# Altium footprint library WifiNode.PcbLib: 25 footprints (part 1 of 2)
Each footprint in its own frame and in the unit in brackets; x right, y up, seen from the top. Pads: shape width x height; smd on the part's side, far side on the other; paste and mask are expansions set on the pad; w line width, h text height; cw(c..) or ccw(c..) is an arc to the next point about the centre after c.
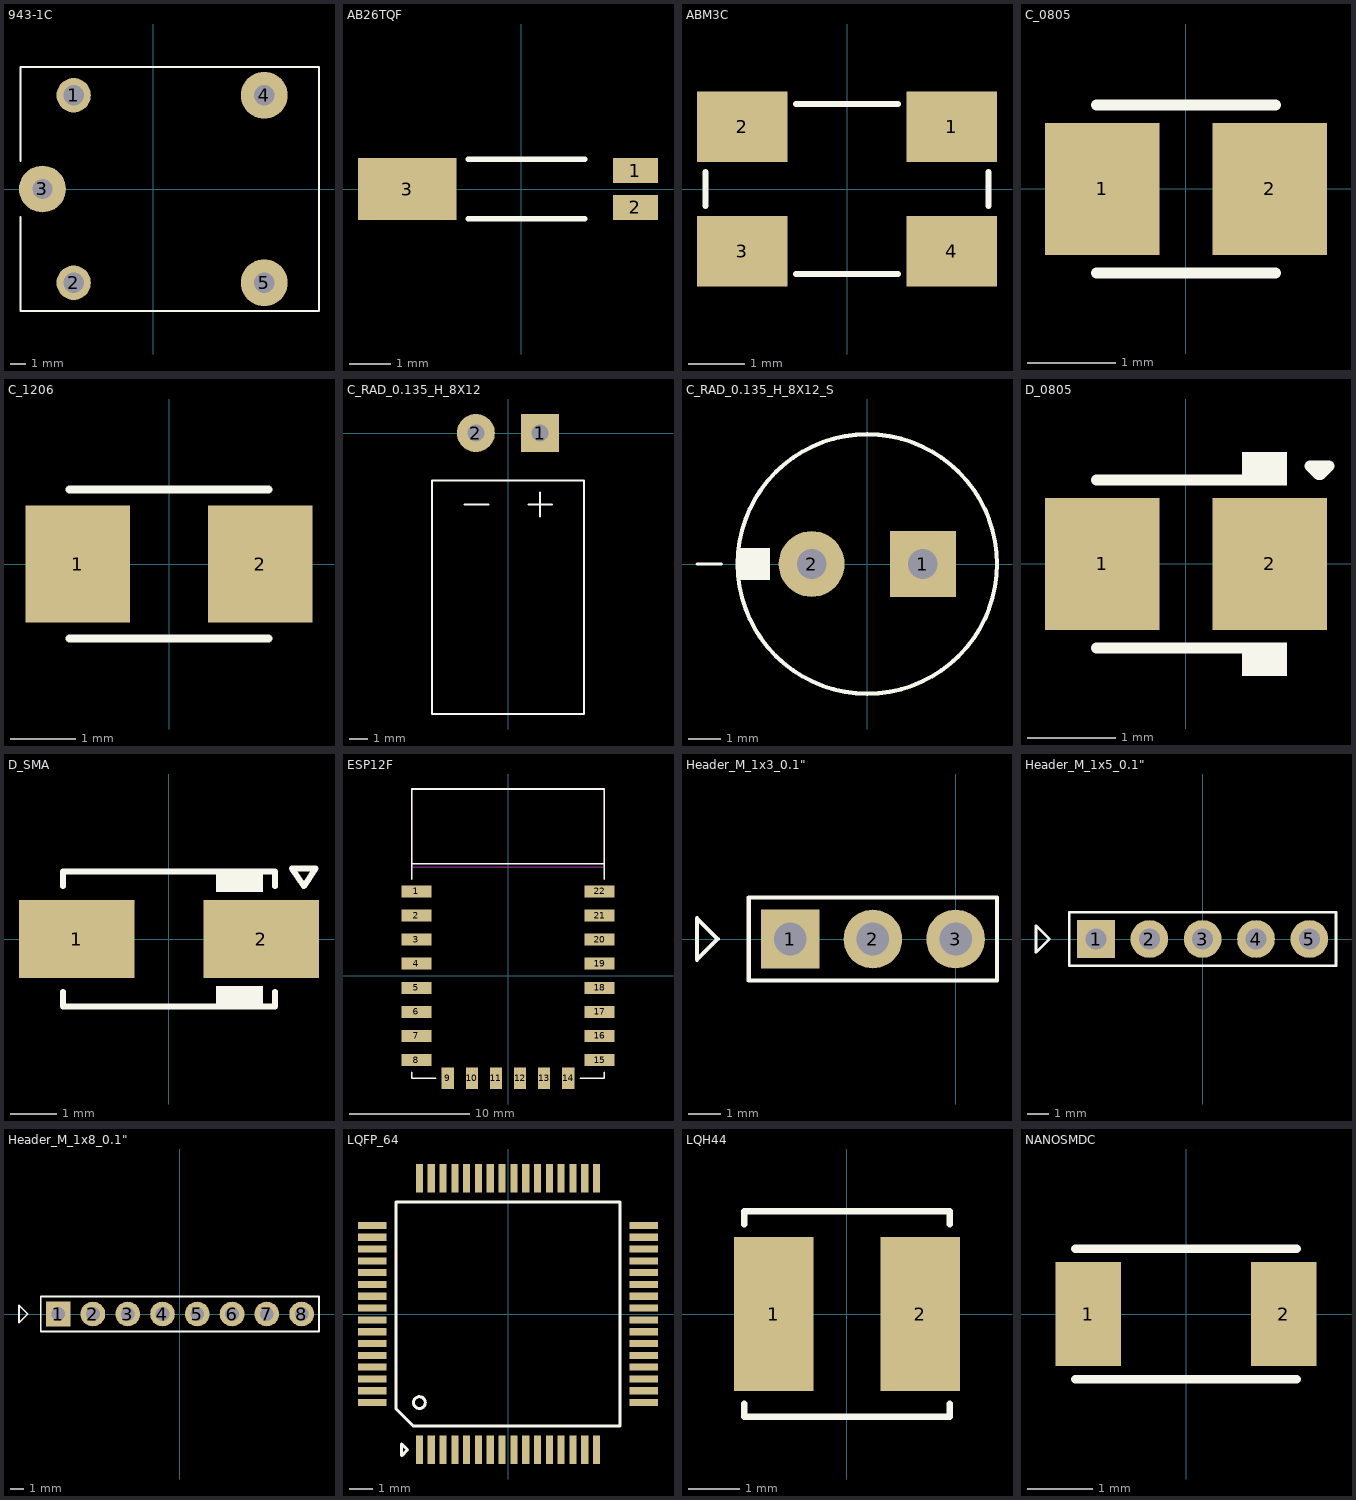
[diagram p0: the footprints below, top view; thin cyan lines are the x and y axes]

## 943-1C [mm]
pads (5):
  round 2.2 hole 1.3: 1(-5.1,6) 2(-5.1,-6)
  round 3 hole 1.3: 3(-7.1,0) 4(7.1,6) 5(7.1,-6)
Top Overlay:
  lines w0.127: -8.5,-1.8 -8.5,-7.8 10.6,-7.8 10.6,7.8 -8.5,7.8 -8.5,1.8
3D body: height 15.3, standoff 0, extent -8.5,-7.75 10.5,7.75

## AB26TQF [mm]
pads (3):
  rect 1.1x0.6 smd: 1(2.775,0.45) 2(2.775,-0.45)
  rect 2.4x1.5 smd: 3(-2.775,0)
Top Overlay:
  lines w0.127: -1.295,-0.725 1.549,-0.725 ; -1.295,0.725 1.549,0.725
3D body "AB26TRQ.STEP": height 1.53, standoff -0.12, extent -3.877,-0.675 2.827,0.775

## ABM3C [mm]
pads (4):
  rect 1.6x1.25 smd: 1(1.85,1.1) 2(-1.85,1.1) 3(-1.85,-1.1) 4(1.85,-1.1)
Top Overlay:
  lines w0.102: -2.5,-0.3 -2.5,0.3 ; -0.9,-1.5 0.9,-1.5 ; -0.9,1.5 0.9,1.5 ; 2.5,-0.3 2.5,0.3
3D body "ABM3C.STEP": height 1.3, standoff 0, extent -2.5,-1.6 2.5,1.6

## C_0805 [mm] "Chip Capacitor, 2-Leads, Body 2.00x1.25mm"
height 1.1
pads (2):
  rect 1.3x1.5 smd: 1(-0.95,0) 2(0.95,0)
Top Overlay:
  lines w0.127: -1.016,-0.953 1.016,-0.953 ; -1.016,0.953 1.016,0.953
3D body "SW3dPS-0805 SMD Capacitor.STEP": height 0.78, standoff 0, extent -1,-0.625 1,0.625

## C_1206 [mm]
pads (2):
  rect 1.6x1.8 smd: 1(-1.4,0) 2(1.4,0)
Top Overlay:
  lines w0.127: -1.524,-1.143 1.524,-1.143 ; -1.524,1.143 1.524,1.143
3D body "SW3dPS-1206 SMD Capacitor.STEP": height 1, standoff 0, extent -1.6,-0.8 1.6,0.8

## C_RAD_0.135_H_8X12 [mil]
pads (2):
  rect 80x80 hole 36: 1(67.5,0)
  round 80 hole 36: 2(-67.5,0)
Top Overlay:
  lines w4: -91.12,-150 -41.12,-150 ; 42.5,-150 92.5,-150 ; 67.5,-175 67.5,-125 ; -160,-590.12 160,-590.12 160,-100 -160,-100 -160,-590.12
3D body "User Library-Cap electrolitic radial 8x12.STEP": height 334.58, standoff 19.69, extent -157.42,-590.55 157.43,-59.06

## C_RAD_0.135_H_8X12_S [mil]
pads (2):
  rect 80x80 hole 36: 1(67.5,0)
  round 80 hole 36: 2(-67.5,0)
Top Overlay:
  circle w5: c0,0 r157.48
  rectangle: -157.48,-19.68 -118.11,19.69
  lines w4: -206.69,0 -177.17,0
3D body "User Library-Cap-EL(8x12-3_5)T.STEP": height 484.33, standoff -129.92, extent -157.56,-157.41 157.48,157.4

## D_0805 [mm]
pads (2):
  rect 1.3x1.5 smd: 1(-0.95,0) 2(0.95,0)
Top Overlay:
  rectangle: 0.635,-1.27 1.143,-0.889
  rectangle: 0.635,0.889 1.143,1.27
  lines w0.127: -1.016,-0.953 1.016,-0.953 ; -1.016,0.953 1.016,0.953 ; 1.405,1.111 1.619,1.111 1.524,1.016 1.5,1.016 1.405,1.111
3D body "User Library-User Library-led_0805 YEL.STEP": height 1.12, standoff -0.02, extent -1.01,-0.663 1.01,0.625

## D_SMA [mm]
height 2.4
pads (2):
  rect 2.5x1.7 smd: 1(-2,0) 2(2,0)
Top Overlay:
  rectangle: 1.016,-1.524 2.032,-1.016
  rectangle: 1.016,1.016 2.032,1.524
  lines w0.127: -2.3,-1.143 -2.3,-1.46 2.3,-1.46 2.3,-1.143 ; -2.3,1.143 -2.3,1.46 2.3,1.46 2.3,1.143 ; 2.667,1.524 2.921,1.143 3.175,1.524 2.667,1.524
3D body "User Library-DO-214AC(SMA).STEP": height 2.39, standoff 0.11, extent -2.743,-1.397 2.743,1.397

## ESP12F [mm]
pads (22):
  rect 2.5x1 smd: 1(-7.6,7) 2(-7.6,5) 3(-7.6,3) 4(-7.6,1) 5(-7.6,-1) 6(-7.6,-3) 7(-7.6,-5) 8(-7.6,-7) 15(7.6,-7) 16(7.6,-5) 17(7.6,-3) 18(7.6,-1) 19(7.6,1) 20(7.6,3) 21(7.6,5) 22(7.6,7)
  rect 1x1.8 smd: 9(-5,-8.5) 10(-3,-8.5) 11(-1,-8.5) 12(1,-8.5) 13(3,-8.5) 14(5,-8.5)
Top Overlay:
  lines w0.127: -8,-8 -8,-8.5 -6,-8.5 ; -8,8 -8,15.5 8,15.5 8,8 ; -8,9.3 8,9.3 ; 6,-8.5 8,-8.5 8,-8
Keep-Out Layer:
  lines w0.127: -8,9 -8,15.5 8,15.5 8,9 -8,9
3D body "User Library-ESP8266-12E.STEP": height 3.2, standoff 0.2, extent -8,-8.465 8,15.915

## Header_M_1x3_0.1" [mm] "Header Male 1 x 5 Vias Pitch 100mils"
pads (3):
  rect 1.8x1.8 hole 1: 1(-5.08,0)
  round 1.8 hole 1: 2(-2.54,0) 3(0,0)
Top Overlay:
  lines w0.127: -7.938,-0.635 -7.938,0.635 -7.302,0 -7.938,-0.635 ; -6.35,-1.27 -6.35,1.27 1.27,1.27 1.27,-1.27 -6.35,-1.27
3D body "Pin Header 1x3 TH Pitch 2.54mm.stp": height 9.5, standoff -3.2, extent -6.35,-1.27 1.27,1.27

## Header_M_1x5_0.1" [mm] "Header Male 1 x 5 Vias Pitch 100mils"
pads (5):
  rect 1.8x1.8 hole 1: 1(-5.08,0)
  round 1.8 hole 1: 2(-2.54,0) 3(0,0) 4(2.54,0) 5(5.08,0)
Top Overlay:
  lines w0.127: -7.938,-0.635 -7.302,0 -7.938,0.635 -7.938,-0.635 ; -6.35,-1.27 6.35,-1.27 6.35,1.27 -6.35,1.27 -6.35,-1.27
3D body "Connector Header 1x5.stp": height 8.87, standoff -2.67, extent -6.35,-1.27 6.35,1.27

## Header_M_1x8_0.1" [mm] "Header Male 1 x 8 Vias Pitch 100mils"
pads (8):
  rect 1.8x1.8 hole 1: 1(-8.89,0)
  round 1.8 hole 1: 2(-6.35,0) 3(-3.81,0) 4(-1.27,0) 5(1.27,0) 6(3.81,0) 7(6.35,0) 8(8.89,0)
Top Overlay:
  lines w0.127: -11.747,-0.635 -11.112,0 -11.747,0.635 -11.747,-0.635 ; -10.16,-1.27 10.16,-1.27 10.16,1.27 -10.16,1.27 -10.16,-1.27
3D body "User Library-1x8 TH Pitch 2_54mm.STEP": height 9.2, standoff -3.5, extent -10.16,-1.27 10.16,1.27

## LQFP_64 [mm]
pads (64):
  rect 0.3x1.2 smd: 1(-3.75,-5.75) 2(-3.25,-5.75) 3(-2.75,-5.75) 4(-2.25,-5.75) 5(-1.75,-5.75) 6(-1.25,-5.75) 7(-0.75,-5.75) 8(-0.25,-5.75) 9(0.25,-5.75) 10(0.75,-5.75) 11(1.25,-5.75) 12(1.75,-5.75) 13(2.25,-5.75) 14(2.75,-5.75) 15(3.25,-5.75) 16(3.75,-5.75) 33(3.75,5.75) 34(3.25,5.75) 35(2.75,5.75) 36(2.25,5.75) 37(1.75,5.75) 38(1.25,5.75) 39(0.75,5.75) 40(0.25,5.75) 41(-0.25,5.75) 42(-0.75,5.75) 43(-1.25,5.75) 44(-1.75,5.75) 45(-2.25,5.75) 46(-2.75,5.75) 47(-3.25,5.75) 48(-3.75,5.75)
  rect 1.2x0.3 smd: 17(5.75,-3.75) 18(5.75,-3.25) 19(5.75,-2.75) 20(5.75,-2.25) 21(5.75,-1.75) 22(5.75,-1.25) 23(5.75,-0.75) 24(5.75,-0.25) 25(5.75,0.25) 26(5.75,0.75) 27(5.75,1.25) 28(5.75,1.75) 29(5.75,2.25) 30(5.75,2.75) 31(5.75,3.25) 32(5.75,3.75) 49(-5.75,3.75) 50(-5.75,3.25) 51(-5.75,2.75) 52(-5.75,2.25) 53(-5.75,1.75) 54(-5.75,1.25) 55(-5.75,0.75) 56(-5.75,0.25) 57(-5.75,-0.25) 58(-5.75,-0.75) 59(-5.75,-1.25) 60(-5.75,-1.75) 61(-5.75,-2.25) 62(-5.75,-2.75) 63(-5.75,-3.25) 64(-5.75,-3.75)
Top Overlay:
  circle w0.127: c-3.75,-3.75 r0.25
  lines w0.127: -4.25,-5.75 -4.25,-5.75 ; -4.25,-5.75 -4.5,-6 -4.5,-5.5 -4.25,-5.75 ; -4.25,-5.75 -4.25,-5.75 ; -4.75,-4 -4.75,4.75 4.75,4.75 4.75,-4.75 -4,-4.75 -4.75,-4
3D body "User Library-LQFP64-0_5.STEP": height 1.55, standoff -0.02, extent -5.886,-5.886 5.886,5.886

## LQH44 [mm]
pads (2):
  rect 1.55x3 smd: 1(-1.425,0) 2(1.425,0)
Top Overlay:
  lines w0.127: -2,-1.75 -2,-2 2,-2 2,-1.75 ; -2,1.75 -2,2 2,2 2,1.75
3D body "LQH44PN_P0.stp": height 1.65, standoff 0, extent -2,-1.997 2,1.998

## NANOSMDC [mm]
pads (2):
  rect 1x1.6 smd: 1(-1.5,0) 2(1.5,0)
Top Overlay:
  lines w0.127: -1.7,-1 1.7,-1 ; -1.7,1 1.7,1
3D body "User Library-FUSER_nanoSMD.STEP": height 1, standoff 0, extent -1.603,-0.8 1.603,0.8